# EAGLE library part 74LVC1T45 (library a111)
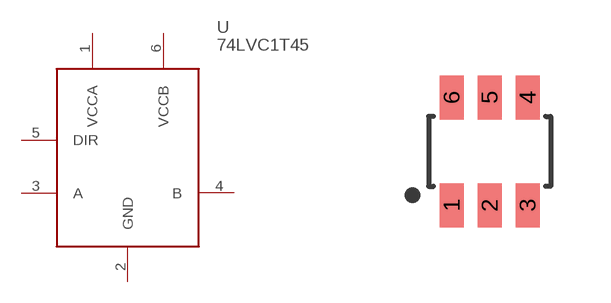
[diagram p2: symbol with the pads of SOT23-6; footprint SOT23-6]

Designator prefix -

## 74LVC1T45  [SOT23-6]
1  VCCA
2  GND
3  A
4  B
5  DIR
6  VCCB

## Footprint SOT23-6 (pad centres in mm)
smd 0.6 x 1.1: 1 -0.95,-1.35; 2 0,-1.35; 3 0.95,-1.35; 4 0.95,1.35; 5 0,1.35; 6 -0.95,1.35